# Altium schematic symbol library 330OHM.SCHLIB: 1 symbol
Pins are listed as number, name and electrical type; pins without a type are passive.

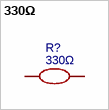
[diagram p0: symbol 330Ω]

## 330Ω
designator R?
Manufacturer: EVER OHMS(天二科技); Manufacturer Part: CR0805J330RP05Z; Contributor: LCSC; nameAlias: Value; Supplier: LCSC; Supplier Part: C881004; JLCPCB Part Class: Extended Part; spicePre: R; spiceSymbolName: CR0805J330RP05Z
footprint R0805
pins: 1, 2